# Altium schematic symbol library TER_TerminalBlock_4Pos.SchLib: 1 symbol
Pins are listed as number, name and electrical type; pins without a type are passive.

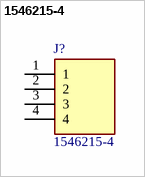
[diagram p0: symbol 1546215-4]

## 1546215-4
designator J?
TERMI-BLOK PCB MOUNT, 90 4P.; Manufacturer_Name: TE Connectivity; Geometry.Height: 10.3mm; Manufacturer_Part_Number: 1546215-4; Mouser Part Number: 571-1546215-4; Mouser Price/Stock: https://www.mouser.co.uk/ProductDetail/TE-Connectivity/1546215-4?qs=Lxq28tKK6BPg3hwx4Yhqqw%3D%3D; Arrow Part Number: 1546215-4; Arrow Price/Stock: https://www.arrow.com/en/products/1546215-4/te-connectivity?region=nac; Datasheet Link: https://www.te.com/commerce/DocumentDelivery/DDEController?Action=srchrtrv&DocNm=1-1773458-1_EURO_STYLE_QRG&DocType=Data+Sheet&DocLang=English&PartCntxt=1546215-4&DocFormat=pdf
footprint 15462154
pins: 1, 2, 3, 4